# Altium footprint library UFL.PcbLib: 1 footprints
Each footprint in its own frame and in the unit in brackets; x right, y up, seen from the top. Pads: shape width x height; smd on the part's side, far side on the other; paste and mask are expansions set on the pad; w line width, h text height; cw(c..) or ccw(c..) is an arc to the next point about the centre after c.
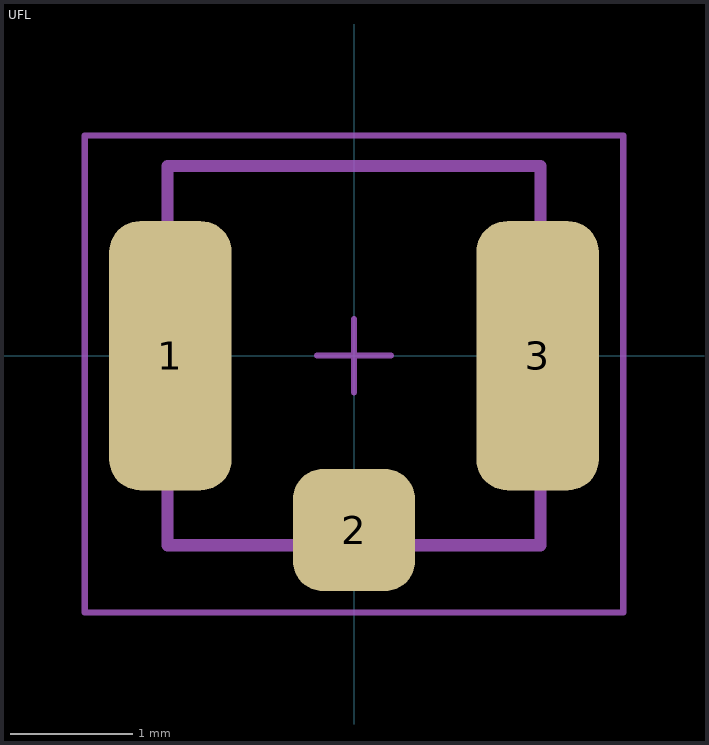
[diagram p0: the footprint, top view; thin cyan lines are the x and y axes]

## UFL [mm]
pads (3):
  rrect50% 1x2.2 smd mask+0.05: 1(-1.5,0) 3(1.5,0)
  rrect50% 1x1 smd mask+0.05: 2(0,-1.425)
Top Assembly:
  lines w0.1: -1.525,-1.55 -1.525,1.55 1.525,1.55 1.525,-1.55 -1.525,-1.55
Top Courtyard:
  lines w0.05: -0.3,0 0.3,0 ; 0,-0.3 0,0.3 ; -2.2,-2.1 2.2,-2.1 2.2,1.8 -2.2,1.8 -2.2,-2.1
3D body "User Library-U_FL-R-SMT(10).step": height 1.25, standoff 0, extent -1.5,-1.55 1.5,1.55